# Altium schematic symbol library AQV101AZ.SchLib: 1 symbol
Pins are listed as number, name and electrical type; pins without a type are passive.

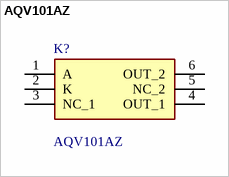
[diagram p0: symbol AQV101AZ]

## AQV101AZ
designator K?
Solid State Relays - PCB Mount 40v 700mA DIP Form A Norm-Open; Manufacturer_Name: Panasonic; Geometry.Height: 3.9mm; Mouser Part Number: 769-AQV101AZ; Mouser Price/Stock: https://www.mouser.co.uk/ProductDetail/Panasonic-Industrial-Devices/AQV101AZ?qs=tR16lFwwUU9E2ZzN3WgHBg%3D%3D; Manufacturer_Part_Number: AQV101AZ; Datasheet Link: https://industry.panasonic.com/ac/cdn/e/control/relay/photomos/catalog/semi_eng_hf1a_aqv10_20.pdf
footprint SOP254P960X390-6N
pins: 1 A, 2 K, 3 NC_1, 4 OUT_1, 5 NC_2, 6 OUT_2